# Altium footprint library UTDFN50P120X160-4L.PcbLib: 1 footprints
Each footprint in its own frame and in the unit in brackets; x right, y up, seen from the top. Pads: shape width x height; smd on the part's side, far side on the other; paste and mask are expansions set on the pad; w line width, h text height; cw(c..) or ccw(c..) is an arc to the next point about the centre after c.
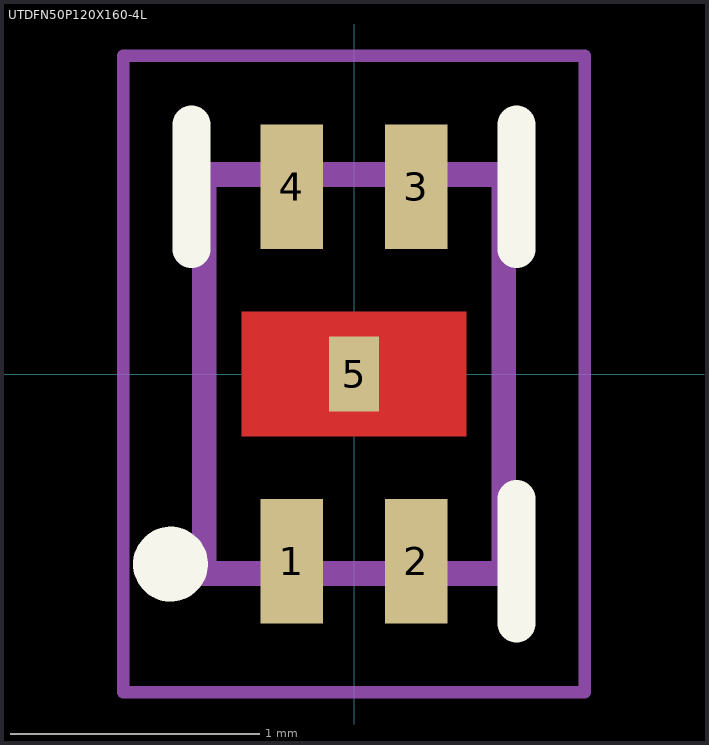
[diagram p0: the footprint, top view; thin cyan lines are the x and y axes]

## UTDFN50P120X160-4L [mm] "pitch0.5mm Body1.2X1.6mm High0.55mm"
height 0.55
pads (5):
  rect 0.25x0.5 smd: 1(-0.25,-0.75) 2(0.25,-0.75) 3(0.25,0.75) 4(-0.25,0.75)
  rect 0.2x0.3 smd: 5(0,0)
Top Layer:
  region: 0.45,-0.25 -0.45,-0.25 -0.45,0.25 0.45,0.25
Top Overlay:
  circle w0.15: c-0.735,-0.762 r0.075
  lines w0.152: -0.651,0.5 -0.651,1 ; 0.651,-1 0.651,-0.5 ; 0.651,0.5 0.651,1
Mechanical 13:
  lines w0.1: -0.6,-0.8 -0.6,0.8 0.6,0.8 0.6,-0.8 -0.6,-0.8
Mechanical 15:
  lines w0.05: -0.925,-1.275 0.925,-1.275 0.925,1.275 -0.925,1.275 -0.925,-1.275
3D body: height 0.55, standoff 0, extent -0.6,-0.81 0.6,0.81